# Altium schematic symbol library Graphics.SchLib: 1 symbol
Pins are listed as number, name and electrical type; pins without a type are passive.

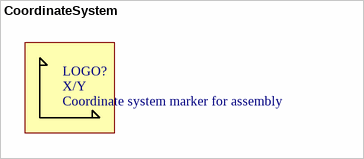
[diagram p0: symbol CoordinateSystem]

## CoordinateSystem
designator LOGO?, comment Coordinate system marker for assembly  (no BOM)
footprint Coordinate System
text: X/Y